# Altium footprint library Hyperloop_Man_Library.PcbLib: 8 footprints
Each footprint in its own frame and in the unit in brackets; x right, y up, seen from the top. Pads: shape width x height; smd on the part's side, far side on the other; paste and mask are expansions set on the pad; w line width, h text height; cw(c..) or ccw(c..) is an arc to the next point about the centre after c.
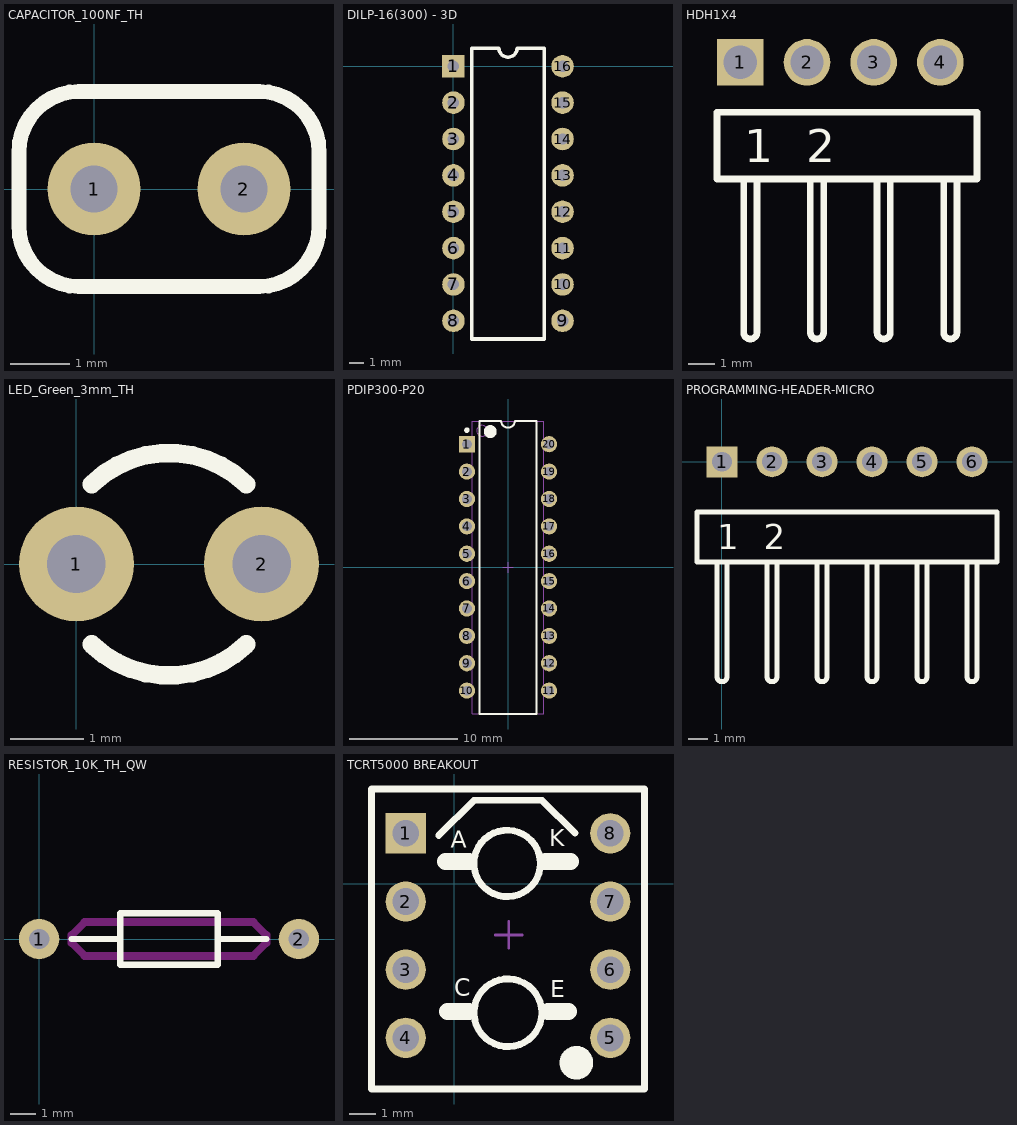
[diagram p0: the footprints below, top view; thin cyan lines are the x and y axes]

## CAPACITOR_100NF_TH [mil]
pads (2):
  round 62 hole 31.5: 1(0,0) 2(100,0)
Top Overlay:
  lines w10: -50,-25 ccw(c-10,-25) -10,-65 110,-65 ccw(c110,-25) 150,-25 150,25 ccw(c110,25) 110,65 -10,65 ccw(c-10,25) -50,25 -50,-25
3D body "100nF capacitor.STEP": height 174.13, standoff -116.52, extent -22.26,-39.37 120.84,39.38

## DILP-16(300) - 3D [mil]
pads (16):
  rect 62x62 hole 31.5: 1(0,0)
  round 62 hole 31.5: 2(0,-100) 3(0,-200) 4(0,-300) 5(0,-400) 6(0,-500) 7(0,-600) 8(0,-700) 9(300,-700) 10(300,-600) 11(300,-500) 12(300,-400) 13(300,-300) 14(300,-200) 15(300,-100) 16(300,0)
Top Overlay:
  lines w10: 50,-750 250,-750 250,50 175,50 cw(c150,50) 125,50 50,50 50,-750
3D body "DIP16.STEP": height 200, standoff -98.03, extent -3.92,-788.58 305.93,52.56

## HDH1X4 [mil]
pads (4):
  rect 70x70 hole 50: 1(-49255,-49340)
  round 70 hole 50: 2(-49155,-49340) 3(-49055,-49340) 4(-48955,-49340)
Top Overlay:
  lines w10: -49250,-49515 -49250,-49745 ccw(c-49240,-49745) -49230,-49745 -49230,-49515 ; -49150,-49515 -49150,-49745 ccw(c-49140,-49745) -49130,-49745 -49130,-49515 ; -49050,-49515 -49050,-49745 ccw(c-49040,-49745) -49030,-49745 -49030,-49515 ; -48950,-49515 -48950,-49745 ccw(c-48940,-49745) -48930,-49745 -48930,-49515 ; -49290,-49515 -48900,-49515 -48900,-49415 -49290,-49415 -49290,-49515
  text "2" at -49156,-49490 h50
  text "1" at -49249,-49490 h50
3D body "4 way right angle header.STEP": height 99.02, standoff -118.11, extent -49305,-49726.22 -48905,-49327.4

## LED_Green_3mm_TH [mil]
pads (2):
  round 62 hole 31.5: 1(0,0) 2(100,0)
Top Overlay:
  lines w10: 8.18,-43.31 ccw(c50,0) 91.82,-43.31 ; 8.32,43.16 cw(c50,0) 91.68,43.16
3D body "3mmGreenLED.STEP": height 224.89, standoff -78.26, extent -13.73,-62 112.26,63.98

## PDIP300-P20 [mm]
pads (20):
  rect 1.5x1.5 hole 0.9: 1(-3.81,11.43)
  round 1.5 hole 0.9: 2(-3.81,8.89) 3(-3.81,6.35) 4(-3.81,3.81) 5(-3.81,1.27) 6(-3.81,-1.27) 7(-3.81,-3.81) 8(-3.81,-6.35) 9(-3.81,-8.89) 10(-3.81,-11.43) 11(3.81,-11.43) 12(3.81,-8.89) 13(3.81,-6.35) 14(3.81,-3.81) 15(3.81,-1.27) 16(3.81,1.27) 17(3.81,3.81) 18(3.81,6.35) 19(3.81,8.89) 20(3.81,11.43)
Top Overlay:
  circle w0.6: c-1.65,12.6 r0.3
  circle w0.25: c-3.81,12.73 r0.125
  lines w0.2: -2.65,-13.6 2.65,-13.6 2.65,13.6 0.635,13.6 cw(c0,13.6) -0.635,13.6 -2.65,13.6 -2.65,-13.6
Mechanical 13:
  circle w0.1: c-2.4,12.675 r0.5
  lines w0.1: -3.3,-13.575 3.3,-13.575 3.3,13.575 -3.3,13.575 -3.3,-13.575
Mechanical 15:
  lines w0.1: -0.5,0 0.5,0 ; 0,-0.5 0,0.5
3D body: height 5.33, standoff 0, extent -3.3,-13.575 3.3,13.575

## PROGRAMMING-HEADER-MICRO [mil]
pads (6):
  rect 62x62 hole 39.37: 1(0,0)
  round 62 hole 39.37: 2(100,0) 3(200,0) 4(300,0) 5(400,0) 6(500,0)
Top Overlay:
  lines w10: -10,-200 -10,-430 ccw(c0,-430) 10,-430 10,-200 ; 90,-200 90,-430 ccw(c100,-430) 110,-430 110,-200 ; 190,-200 190,-430 ccw(c200,-430) 210,-430 210,-200 ; 290,-200 290,-430 ccw(c300,-430) 310,-430 310,-200 ; 390,-200 390,-430 ccw(c400,-430) 410,-430 410,-200 ; 490,-200 490,-430 ccw(c500,-430) 510,-430 510,-200 ; -50,-200 -50,-100 550,-100 550,-200 -50,-200
  text "2" at 84,-175 h50
  text "1" at -9,-175 h50
3D body "ProgrammingHeader.STEP": height 99.02, standoff -118.11, extent -49.54,-385.49 550.46,13.33

## RESISTOR_10K_TH_QW [mil]
pads (2):
  round 62 hole 31.5: 1(0,0) 2(400,0)
Top Layer keep-out:
  lines w12: 50,-6 50,6 70,26 330,26 350,6 350,-6 330,-26 70,-26 50,-6
Top Overlay:
  lines w10: 50,0 125,0 ; 275,0 350,0 ; 125,-40 125,40 275,40 275,-40 125,-40
3D body "10k Resistor.STEP": height 103.3, standoff -139.22, extent -12.48,-49 412.48,51

## TCRT5000 BREAKOUT [mm]
pads (8):
  rect 1.5x1.5 hole 1: 1(-1.799,1.884)
  round 1.5 hole 1: 2(-1.799,-0.656) 3(-1.799,-3.196) 4(-1.799,-5.736) 5(5.821,-5.736) 6(5.821,-3.196) 7(5.821,-0.656) 8(5.821,1.884)
Top Overlay:
  circle w0.254: c4.547,-6.731 r0.072
  circle w0.254: c4.547,-6.756 r0.229
  circle w0.254: c4.572,-6.731 r0.394
  circle w0.254: c4.556,-6.664 r0.503
  circle w0.254: c1.981,0.762 r1.237
  circle w0.254: c2.007,-4.801 r1.261
  lines w0.254: -0.572,1.797 0.746,3.115 3.286,3.115 4.508,1.893 ; -3.069,-7.641 -3.069,3.535 7.091,3.535 7.091,-7.641 -3.069,-7.641
  lines w0.635: -0.314,0.829 0.559,0.829 ; -0.236,-4.759 0.559,-4.759 ; 3.404,0.829 4.336,0.829 ; 3.505,-4.759 4.258,-4.759
  text "E" at 3.581,-4.216 h0.64
  text "C" at 0,-4.166 h0.64
  text "K" at 3.556,1.397 h0.64
  text "A" at -0.127,1.346 h0.64
Top Paste:
  circle w0.254: c4.623,-6.807 r0.254
Mechanical 15:
  lines w0.1: 1.536,-1.901 2.536,-1.901 ; 2.036,-2.401 2.036,-1.401
3D body "TCRT5000 Breakout Board Fully Assembled.STEP": height 10.11, standoff -3.61, extent -3.09,-7.408 7.091,3.768